# EAGLE library part MCP6282 (library MCP6074)
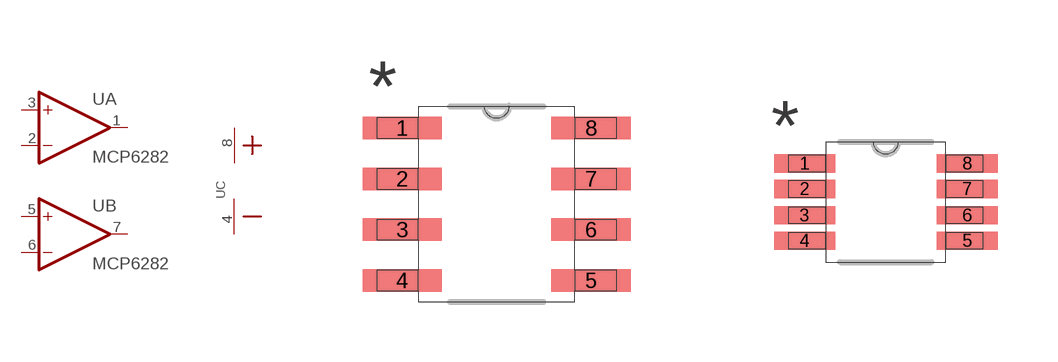
[diagram p1: symbol with the pads of SOIC8-N_MC; footprints SOIC8-N_MC, MSOP8_MC]

Designator prefix U; gates A=OPAMP B=OPAMP C=PWR+-

## MCP6282-SN  [SOIC8-N_MC]
1  A:OUT  out
2  A:-IN  in
3  A:+IN  in
4  C:V-  pwr
5  B:+IN  in
6  B:-IN  in
7  B:OUT  out
8  C:V+  pwr

## MCP6282-MS  [MSOP8_MC]
Pads as for SOIC8-N_MC

## Footprint SOIC8-N_MC (pad centres in mm)
smd 1.981 x 0.559: 1 -2.362,1.905; 2 -2.362,0.635; 3 -2.362,-0.635; 4 -2.362,-1.905; 5 2.362,-1.905; 6 2.362,-0.635; 7 2.362,0.635; 8 2.362,1.905

## Footprint MSOP8_MC (pad centres in mm)
smd 1.524 x 0.457: 1 -2.032,0.965; 2 -2.032,0.33; 3 -2.032,-0.33; 4 -2.032,-0.965; 5 2.032,-0.965; 6 2.032,-0.33; 7 2.032,0.33; 8 2.032,0.965